# Altium schematic symbol library c-mote.SchLib: 17 symbols
Pins are listed as number, name and electrical type; pins without a type are passive.

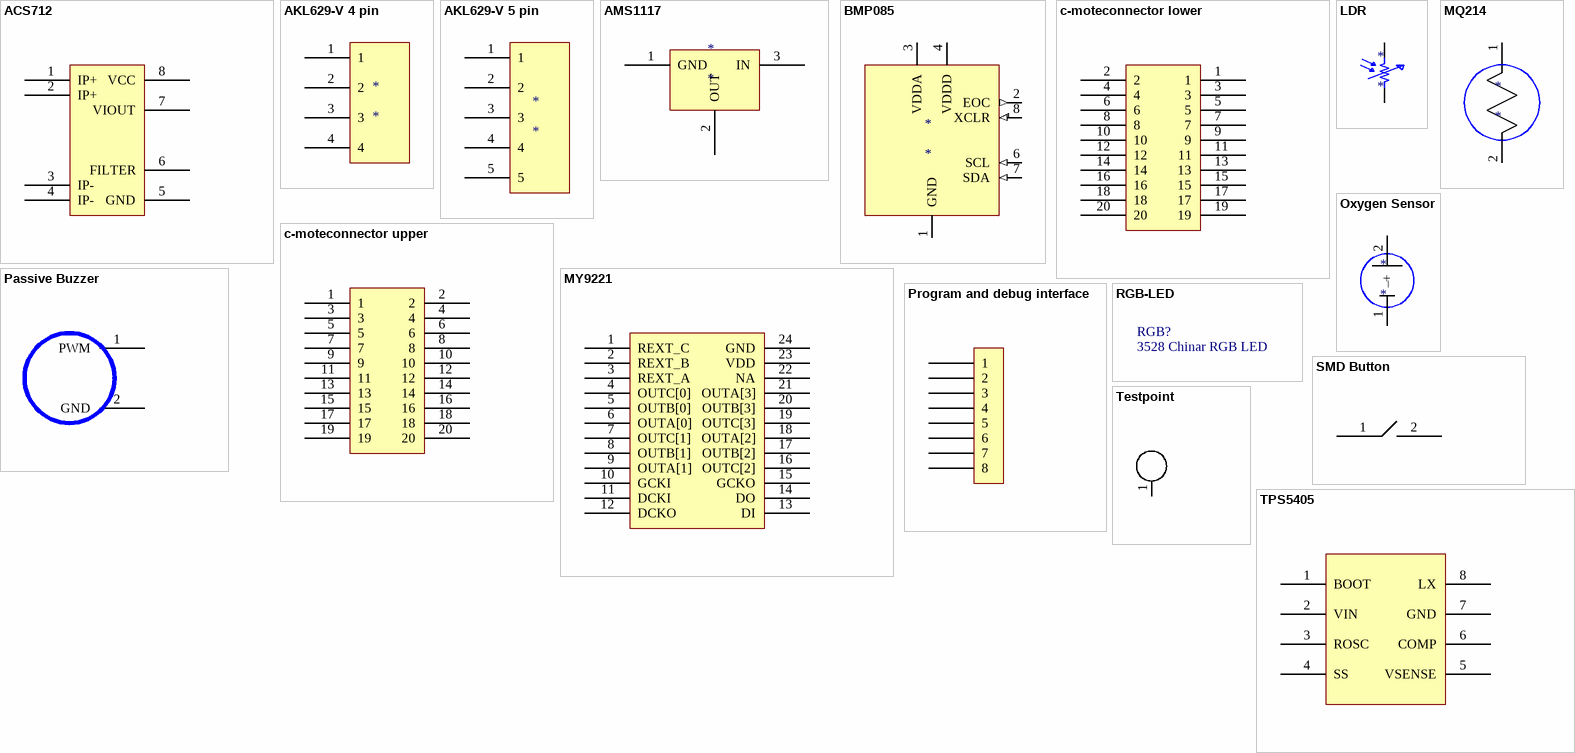
[diagram p0: symbols ACS712 to TPS5405]

## ACS712
designator S?
Linear Current Sensor
footprint ACS712
pins: 1 IP+, 2 IP+, 3 IP-, 4 IP-, 5 GND, 6 FILTER, 7 VIOUT, 8 VCC

## AKL629-V 4 pin
designator *
footprint AKZ692-V 2.54mm 4pin
pins: 1, 2, 3, 4

## AKL629-V 5 pin
designator *
footprint AKL692-V 2.54mm 5pin
pins: 1, 2, 3, 4, 5

## AMS1117
designator *
pins: 1 GND, 2 OUT, 3 IN

## BMP085
designator *
footprint BMP085
pins: 1 GND (power), 2 EOC (out), 3 VDDA (power), 4 VDDD (power), 6 SCL (in), 7 SDA (in), 8 XCLR (in)

## c-moteconnector lower
designator Q?, comment lower
c-mote lower connector
footprint HEADER_2x10_SMD_1.27mm_TOP_NOHOLES
pins: 1, 2, 3, 4, 5, 6, 7, 8, 9, 10, 11, 12, 13, 14, 15, 16, 17, 18, 19, 20

## c-moteconnector upper
designator Q?, comment upper
c-mote upper connector
footprint HEADER_2x10_SMD_1.27mm_TOP
pins: 1, 2, 3, 4, 5, 6, 7, 8, 9, 10, 11, 12, 13, 14, 15, 16, 17, 18, 19, 20

## LDR
designator *
pins: 1, 2

## MQ214
designator *
footprint MQ214
pins: 1, 2

## MY9221
designator Q?
Adaptive Pulse Density Modulation Control
footprint MY9221SS (LED driver SSOP-24 package)
pins: 1 REXT_C, 2 REXT_B, 3 REXT_A, 4 OUTC[0], 5 OUTB[0], 6 OUTA[0], 7 OUTC[1], 8 OUTB[1], 9 OUTA[1], 10 GCKI, 11 DCKI, 12 DCKO, 13 DI, 14 DO, 15 GCKO, 16 OUTC[2], 17 OUTB[2], 18 OUTA[2], 19 OUTC[3], 20 OUTB[3], 21 OUTA[3], 22 NA, 23 VDD, 24 GND

## Oxygen Sensor
designator *
pins: 1 –, 2 +

## Passive Buzzer
designator Q?
ALIX: http://www.aliexpress.com/item/General-passive-buzzer-magnetic-type-impedance-16-2khz-3v-5v-12v-general/1952004434.html
footprint Passive Buzzer
pins: 1 PWM, 2 GND

## Program and debug interface
designator Q?  (value not drawn)
footprint Program and debug
pins: 1, 2, 3, 4, 5, 6, 7, 8

## RGB-LED
designator RGB?, comment 3528 Chinar RGB LED
RGB-LED
footprint 3528_RGB_LED (3528 RGB LED)

## SMD Button
designator Q?  (value not drawn)
AlieX: http://www.aliexpress.com/item/Original-new-100-100pcs-Little-turtle-button-switch-2-pin-SMD-tact-switch-with-fixed-point/1969145919.html
footprint SMD Button Right Angel
pins: 1, 2

## Testpoint
designator T?
footprint Testpoint
pins: 1

## TPS5405
designator Q?
Step Down Regulator
footprint TPS5405
pins: 1 BOOT, 2 VIN, 3 ROSC, 4 SS, 5 VSENSE, 6 COMP, 7 GND, 8 LX